# EAGLE library part MPU-3000 (library 3DRobotics_Master_Library)
Invensense MPU-3000 Motion Processing Unit The MPU-30X0 Motion Processing Unit (MPU?) is the world?s first motion processing solution with integrated 6-axis sensor fusion for smart phone applications. The MPU-30X0 has an embedded 3- axis gyroscope and Digital Motion Processor? (DMP) hardware accelerator engine with a secondary I 2 C port that interfaces to third party digital accelerometers to deliver a complete 6-axis sensor fusion output to its primary I 2 C port. This combines both linear and rotational motion into a single data stream for the application.
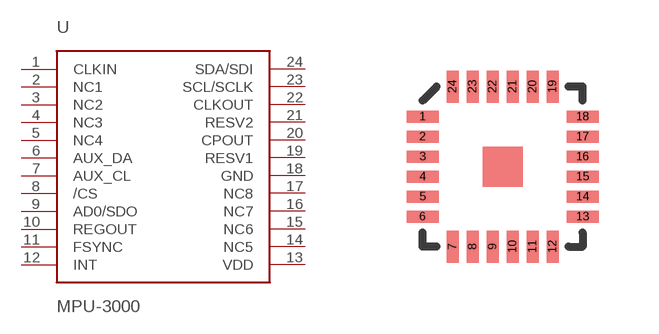
[diagram p19: symbol with the pads of QFN-24; footprint QFN-24]

Designator prefix -

## MPU-3000 (DATASHEET: http://invensense.com/mems/gyro/documents/PS-MPU-3000A-00_v2.6.pdf; LINK: http://www.invensense.com/mems/gyro/mpu3000.html; MFGPN: MPU-3000)  [QFN-24]
1  CLKIN
2  NC1
3  NC2
4  NC3
5  NC4
6  AUX_DA
7  AUX_CL
8  /CS
9  AD0/SDO
10  REGOUT
11  FSYNC
12  INT
13  VDD
14  NC5
15  NC6
16  NC7
17  NC8
18  GND
19  RESV1
20  CPOUT
21  RESV2
22  CLKOUT
23  SCL/SCLK
24  SDA/SDI

## Footprint QFN-24 (pad centres in mm)
smd 0.8 x 0.3: 1 -2,1.25; 2 -2,0.75; 3 -2,0.25; 4 -2,-0.25; 5 -2,-0.75; 6 -2,-1.25; 13 2,-1.25; 14 2,-0.75; 15 2,-0.25; 16 2,0.25; 17 2,0.75; 18 2,1.25
smd 0.3 x 0.8: 7 -1.25,-2; 8 -0.75,-2; 9 -0.25,-2; 10 0.25,-2; 11 0.75,-2; 12 1.25,-2; 19 1.25,2; 20 0.75,2; 21 0.25,2; 22 -0.25,2; 23 -0.75,2; 24 -1.25,2